# EAGLE library part PIC12F1822 (library jasons_stuff)
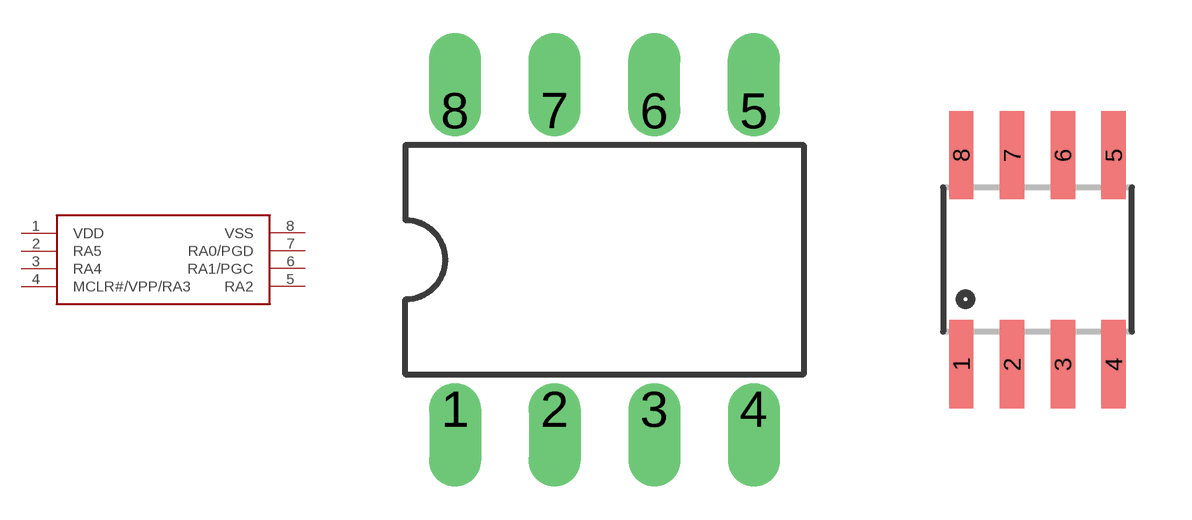
[diagram p36: symbol with the pads of DIL08; footprints DIL08, SO08]

Designator prefix -

## PIC12F1822  [DIL08]
1  VDD  pwr
2  RA5
3  RA4
4  MCLR#/VPP/RA3
5  RA2
6  RA1/PGC
7  RA0/PGD
8  VSS  pwr

## PIC12F1822SO08  [SO08]
Pads as for DIL08

## Footprint DIL08 (pad centres in mm)
Dual In Line Package
drill 0.813 offset: 1 -3.81,-3.81; 2 -1.27,-3.81; 3 1.27,-3.81; 4 3.81,-3.81; 5 3.81,3.81; 6 1.27,3.81; 7 -1.27,3.81; 8 -3.81,3.81

## Footprint SO08 (pad centres in mm)
Small Outline Package Fits JEDEC packages (narrow SOIC-8)
smd 0.61 x 2.21: 1 -1.905,-2.616; 2 -0.635,-2.616; 3 0.635,-2.616; 4 1.905,-2.616; 5 1.905,2.616; 6 0.635,2.616; 7 -0.635,2.616; 8 -1.905,2.616